# Altium integrated library TI Amplifiers and Linear Operational Amplifier High Speed.IntLib: 1100 symbols (part 24 of 44)
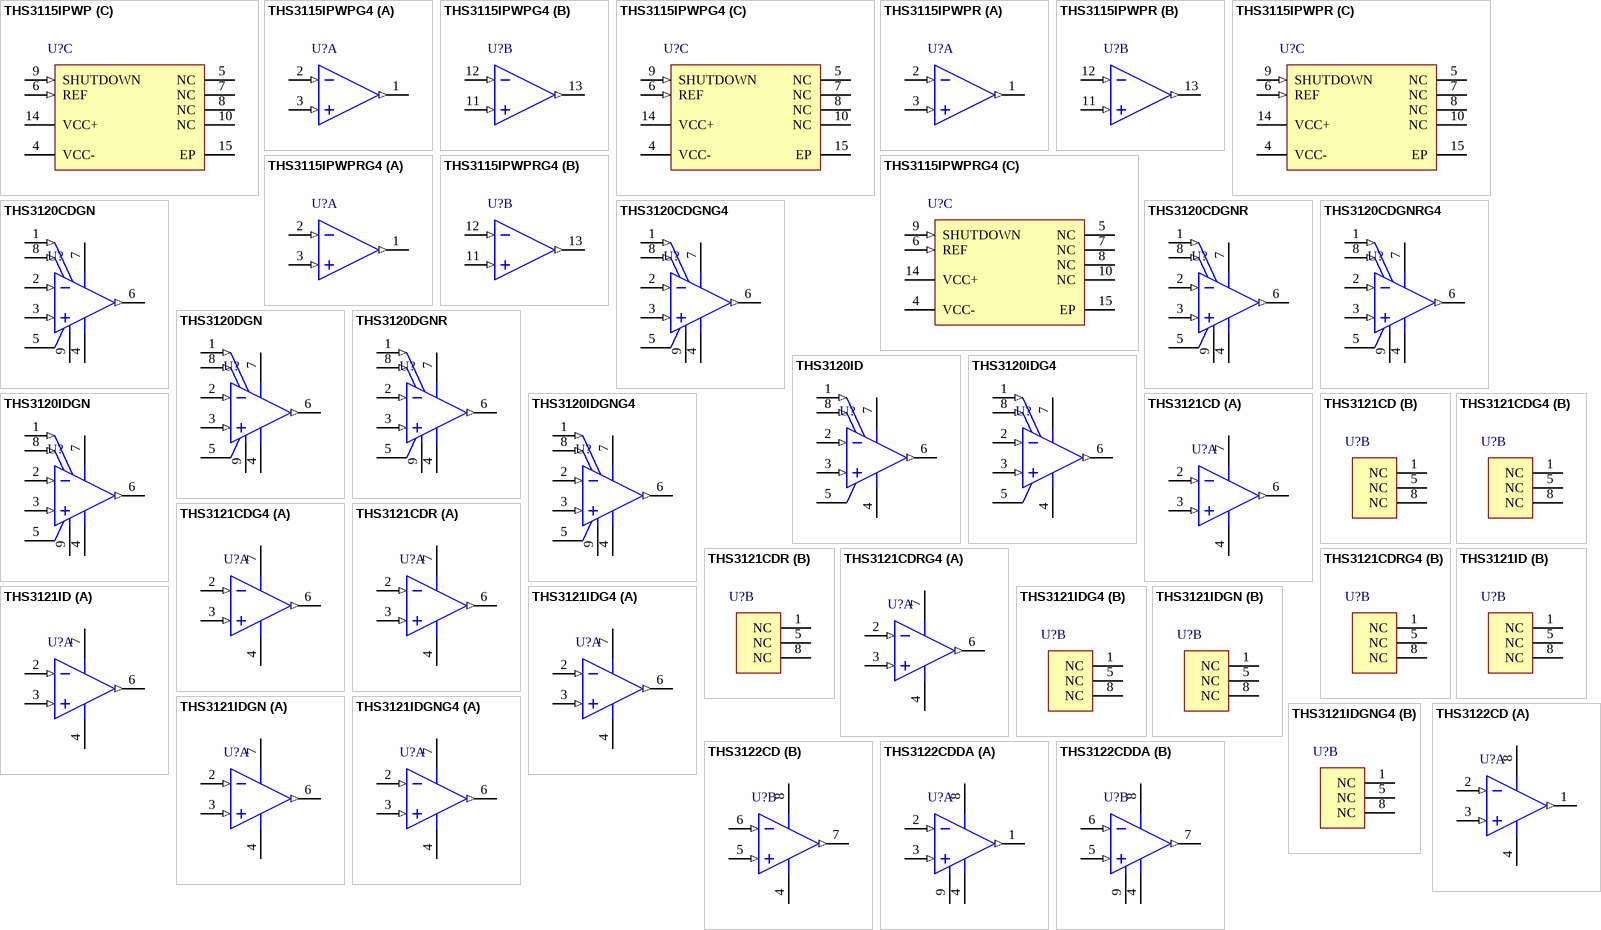
[diagram p74: symbols THS3115IPWP to THS3122CDDA]

## THS3121CD
designator U?
Single, Low Noise, High Output Drive, 475 mA Current-Feedback Amplifier, 10 to 30 V, -40 to 85 degC, 8-pin SOIC (D8), Green (RoHS & no Sb/Br); Manufacturer: Texas Instruments; PartNumber: THS3121CD; 2nd Harmonic(dBc): 51; 3rd Harmonic(dBc): 50; @ MHz: 10; Acl, min stable gain(V/V): 1; BW @ Acl(MHz): 130; Diff Gain(%): 0.007; Diff Phase(deg): 0.018; Iib(Max)(nA): 6000; Io(Typ)(mA): 475; Settling Time (0.1%)(Typ)(ns): 11; Slew Rate(Typ)(V/us): 1700; Sub Family: High Output Current Amplifier (>=50mA), High Speed Amplifier (>=50MHz), High Supply Voltage Amplifier (>=30V); THD (Fc is 1 MHz)(Typ)(dB): -78; Vio(Max)(mV): 8; Vn at Flatband(Typ)(nV/rtHz): 2.5; Vs(Max)(V): 30; DatasheetVersion: SLOS420E; PackageVersion: 4040047-3/M, 06/2011; PackageReference: D8; PackageDescription: 8-Pin Plastic Small Outline, Body 4.9 x 3.9 mm, Pitch 1.27 mm; Supplier 1: Digi-Key; Supplier Part Number 1: 296-34200-5-ND; Supplier 2: Newark; Supplier Part Number 2: 87H2790; Supplier 3: Mouser; Supplier Part Number 3: 595-THS3121CD; Eco-Plan: Green (RoHS & no Sb/Br); Number of Channels: 1; Vs(Min)(V): 10; Mounting Technology: Surface Mount; Code_JEDEC: MS-012; ComponentLink1Description: Manufacturer URL; ComponentLink1URL: http://www.ti.com/; ComponentLink2Description: Datasheet; ComponentLink2URL: http://www.ti.com/general/docs/lit/getliterature.tsp?genericPartNumber=THS3121&fileType=pdf; ComponentLink3Description: Package Specification; ComponentLink3URL: http://www.ti.com/litv/pdf/msoi002j
footprint TI-D8_N (SOIC, 8-Leads, Body 4.9x3.9mm, Pitch 1.27mm, IPC Medium Density)
footprint TI-D8_L (SOIC, 8-Leads, Body 4.9x3.9mm, Pitch 1.27mm, IPC High Density)
footprint TI-D8_M (SOIC, 8-Leads, Body 4.9x3.9mm, Pitch 1.27mm, IPC Low Density)
part A pins: 2 VIN- (in), 3 VIN+ (in), 4 VS- (power), 6 VOUT (out), 7 VS+ (power)
part B pins: 1 NC, 5 NC, 8 NC

## THS3121CDG4
designator U?
Single, Low Noise, High Output Drive, 475 mA Current-Feedback Amplifier, 10 to 30 V, -40 to 85 degC, 8-pin SOIC (D8), Green (RoHS & no Sb/Br); Manufacturer: Texas Instruments; PartNumber: THS3121CDG4; 2nd Harmonic(dBc): 51; 3rd Harmonic(dBc): 50; @ MHz: 10; Acl, min stable gain(V/V): 1; BW @ Acl(MHz): 130; Diff Gain(%): 0.007; Diff Phase(deg): 0.018; Iib(Max)(nA): 6000; Io(Typ)(mA): 475; Settling Time (0.1%)(Typ)(ns): 11; Slew Rate(Typ)(V/us): 1700; Sub Family: High Output Current Amplifier (>=50mA), High Speed Amplifier (>=50MHz), High Supply Voltage Amplifier (>=30V); THD (Fc is 1 MHz)(Typ)(dB): -78; Vio(Max)(mV): 8; Vn at Flatband(Typ)(nV/rtHz): 2.5; Vs(Max)(V): 30; DatasheetVersion: SLOS420E; PackageVersion: 4040047-3/M, 06/2011; PackageReference: D8; PackageDescription: 8-Pin Plastic Small Outline, Body 4.9 x 3.9 mm, Pitch 1.27 mm; Supplier 1: Digi-Key; Supplier Part Number 1: THS3121CDG4-ND; Supplier 2: Mouser; Supplier Part Number 2: 595-THS3121CDG4; Eco-Plan: Green (RoHS & no Sb/Br); Number of Channels: 1; Vs(Min)(V): 10; Mounting Technology: Surface Mount; Code_JEDEC: MS-012; ComponentLink1Description: Manufacturer URL; ComponentLink1URL: http://www.ti.com/; ComponentLink2Description: Datasheet; ComponentLink2URL: http://www.ti.com/general/docs/lit/getliterature.tsp?genericPartNumber=THS3121&fileType=pdf; ComponentLink3Description: Package Specification; ComponentLink3URL: http://www.ti.com/litv/pdf/msoi002j
footprint TI-D8_N (SOIC, 8-Leads, Body 4.9x3.9mm, Pitch 1.27mm, IPC Medium Density)
footprint TI-D8_L (SOIC, 8-Leads, Body 4.9x3.9mm, Pitch 1.27mm, IPC High Density)
footprint TI-D8_M (SOIC, 8-Leads, Body 4.9x3.9mm, Pitch 1.27mm, IPC Low Density)
part A pins: 2 VIN- (in), 3 VIN+ (in), 4 VS- (power), 6 VOUT (out), 7 VS+ (power)
part B pins: 1 NC, 5 NC, 8 NC

## THS3121CDR
designator U?
Single, Low Noise, High Output Drive, 475 mA Current-Feedback Amplifier, 10 to 30 V, -40 to 85 degC, 8-pin SOIC (D8), Green (RoHS & no Sb/Br); Manufacturer: Texas Instruments; PartNumber: THS3121CDR; 2nd Harmonic(dBc): 51; 3rd Harmonic(dBc): 50; @ MHz: 10; Acl, min stable gain(V/V): 1; BW @ Acl(MHz): 130; Diff Gain(%): 0.007; Diff Phase(deg): 0.018; Iib(Max)(nA): 6000; Io(Typ)(mA): 475; Settling Time (0.1%)(Typ)(ns): 11; Slew Rate(Typ)(V/us): 1700; Sub Family: High Output Current Amplifier (>=50mA), High Speed Amplifier (>=50MHz), High Supply Voltage Amplifier (>=30V); THD (Fc is 1 MHz)(Typ)(dB): -78; Vio(Max)(mV): 8; Vn at Flatband(Typ)(nV/rtHz): 2.5; Vs(Max)(V): 30; DatasheetVersion: SLOS420E; PackageVersion: 4040047-3/M, 06/2011; PackageReference: D8; PackageDescription: 8-Pin Plastic Small Outline, Body 4.9 x 3.9 mm, Pitch 1.27 mm; Supplier 1: Digi-Key; Supplier Part Number 1: THS3121CDR-ND; Supplier 2: Newark; Supplier Part Number 2: 87H2793; Supplier 3: Mouser; Supplier Part Number 3: 595-THS3121CDR; Eco-Plan: Green (RoHS & no Sb/Br); Number of Channels: 1; Vs(Min)(V): 10; Mounting Technology: Surface Mount; Code_JEDEC: MS-012; ComponentLink1Description: Manufacturer URL; ComponentLink1URL: http://www.ti.com/; ComponentLink2Description: Datasheet; ComponentLink2URL: http://www.ti.com/general/docs/lit/getliterature.tsp?genericPartNumber=THS3121&fileType=pdf; ComponentLink3Description: Package Specification; ComponentLink3URL: http://www.ti.com/litv/pdf/msoi002j
footprint TI-D8_N (SOIC, 8-Leads, Body 4.9x3.9mm, Pitch 1.27mm, IPC Medium Density)
footprint TI-D8_L (SOIC, 8-Leads, Body 4.9x3.9mm, Pitch 1.27mm, IPC High Density)
footprint TI-D8_M (SOIC, 8-Leads, Body 4.9x3.9mm, Pitch 1.27mm, IPC Low Density)
part A pins: 2 VIN- (in), 3 VIN+ (in), 4 VS- (power), 6 VOUT (out), 7 VS+ (power)
part B pins: 1 NC, 5 NC, 8 NC

## THS3121CDRG4
designator U?
Single, Low Noise, High Output Drive, 475 mA Current-Feedback Amplifier, 10 to 30 V, -40 to 85 degC, 8-pin SOIC (D8), Green (RoHS & no Sb/Br); Manufacturer: Texas Instruments; PartNumber: THS3121CDRG4; 2nd Harmonic(dBc): 51; 3rd Harmonic(dBc): 50; @ MHz: 10; Acl, min stable gain(V/V): 1; BW @ Acl(MHz): 130; Diff Gain(%): 0.007; Diff Phase(deg): 0.018; Iib(Max)(nA): 6000; Io(Typ)(mA): 475; Settling Time (0.1%)(Typ)(ns): 11; Slew Rate(Typ)(V/us): 1700; Sub Family: High Output Current Amplifier (>=50mA), High Speed Amplifier (>=50MHz), High Supply Voltage Amplifier (>=30V); THD (Fc is 1 MHz)(Typ)(dB): -78; Vio(Max)(mV): 8; Vn at Flatband(Typ)(nV/rtHz): 2.5; Vs(Max)(V): 30; DatasheetVersion: SLOS420E; PackageVersion: 4040047-3/M, 06/2011; PackageReference: D8; PackageDescription: 8-Pin Plastic Small Outline, Body 4.9 x 3.9 mm, Pitch 1.27 mm; Supplier 1: Digi-Key; Supplier Part Number 1: THS3121CDRG4-ND; Supplier 2: Mouser; Supplier Part Number 2: 595-THS3121CDRG4; Eco-Plan: Green (RoHS & no Sb/Br); Number of Channels: 1; Vs(Min)(V): 10; Mounting Technology: Surface Mount; Code_JEDEC: MS-012; ComponentLink1Description: Manufacturer URL; ComponentLink1URL: http://www.ti.com/; ComponentLink2Description: Datasheet; ComponentLink2URL: http://www.ti.com/general/docs/lit/getliterature.tsp?genericPartNumber=THS3121&fileType=pdf; ComponentLink3Description: Package Specification; ComponentLink3URL: http://www.ti.com/litv/pdf/msoi002j
footprint TI-D8_N (SOIC, 8-Leads, Body 4.9x3.9mm, Pitch 1.27mm, IPC Medium Density)
footprint TI-D8_L (SOIC, 8-Leads, Body 4.9x3.9mm, Pitch 1.27mm, IPC High Density)
footprint TI-D8_M (SOIC, 8-Leads, Body 4.9x3.9mm, Pitch 1.27mm, IPC Low Density)
part A pins: 2 VIN- (in), 3 VIN+ (in), 4 VS- (power), 6 VOUT (out), 7 VS+ (power)
part B pins: 1 NC, 5 NC, 8 NC

## THS3121ID
designator U?
Single, Low Noise, High Output Drive, 475 mA Current-Feedback Amplifier, 10 to 30 V, -40 to 85 degC, 8-pin SOIC (D8), Green (RoHS & no Sb/Br); Manufacturer: Texas Instruments; PartNumber: THS3121ID; 2nd Harmonic(dBc): 51; 3rd Harmonic(dBc): 50; @ MHz: 10; Acl, min stable gain(V/V): 1; BW @ Acl(MHz): 130; Diff Gain(%): 0.007; Diff Phase(deg): 0.018; Iib(Max)(nA): 6000; Io(Typ)(mA): 475; Settling Time (0.1%)(Typ)(ns): 11; Slew Rate(Typ)(V/us): 1700; Sub Family: High Output Current Amplifier (>=50mA), High Speed Amplifier (>=50MHz), High Supply Voltage Amplifier (>=30V); THD (Fc is 1 MHz)(Typ)(dB): -78; Vio(Max)(mV): 8; Vn at Flatband(Typ)(nV/rtHz): 2.5; Vs(Max)(V): 30; DatasheetVersion: SLOS420E; PackageVersion: 4040047-3/M, 06/2011; PackageReference: D8; PackageDescription: 8-Pin Plastic Small Outline, Body 4.9 x 3.9 mm, Pitch 1.27 mm; Supplier 1: Digi-Key; Supplier Part Number 1: 296-15774-5-ND; Supplier 2: Farnell; Supplier Part Number 2: 8453055; Supplier 3: Newark; Supplier Part Number 3: 87H2794; Supplier 4: Mouser; Supplier Part Number 4: 595-THS3121ID; Eco-Plan: Green (RoHS & no Sb/Br); Number of Channels: 1; Vs(Min)(V): 10; Mounting Technology: Surface Mount; Code_JEDEC: MS-012; ComponentLink1Description: Manufacturer URL; ComponentLink1URL: http://www.ti.com/; ComponentLink2Description: Datasheet; ComponentLink2URL: http://www.ti.com/general/docs/lit/getliterature.tsp?genericPartNumber=THS3121&fileType=pdf; ComponentLink3Description: Package Specification; ComponentLink3URL: http://www.ti.com/litv/pdf/msoi002j
footprint TI-D8_N (SOIC, 8-Leads, Body 4.9x3.9mm, Pitch 1.27mm, IPC Medium Density)
footprint TI-D8_L (SOIC, 8-Leads, Body 4.9x3.9mm, Pitch 1.27mm, IPC High Density)
footprint TI-D8_M (SOIC, 8-Leads, Body 4.9x3.9mm, Pitch 1.27mm, IPC Low Density)
part A pins: 2 VIN- (in), 3 VIN+ (in), 4 VS- (power), 6 VOUT (out), 7 VS+ (power)
part B pins: 1 NC, 5 NC, 8 NC

## THS3121IDG4
designator U?
Single, Low Noise, High Output Drive, 475 mA Current-Feedback Amplifier, 10 to 30 V, -40 to 85 degC, 8-pin SOIC (D8), Green (RoHS & no Sb/Br); Manufacturer: Texas Instruments; PartNumber: THS3121IDG4; 2nd Harmonic(dBc): 51; 3rd Harmonic(dBc): 50; @ MHz: 10; Acl, min stable gain(V/V): 1; BW @ Acl(MHz): 130; Diff Gain(%): 0.007; Diff Phase(deg): 0.018; Iib(Max)(nA): 6000; Io(Typ)(mA): 475; Settling Time (0.1%)(Typ)(ns): 11; Slew Rate(Typ)(V/us): 1700; Sub Family: High Output Current Amplifier (>=50mA), High Speed Amplifier (>=50MHz), High Supply Voltage Amplifier (>=30V); THD (Fc is 1 MHz)(Typ)(dB): -78; Vio(Max)(mV): 8; Vn at Flatband(Typ)(nV/rtHz): 2.5; Vs(Max)(V): 30; DatasheetVersion: SLOS420E; PackageVersion: 4040047-3/M, 06/2011; PackageReference: D8; PackageDescription: 8-Pin Plastic Small Outline, Body 4.9 x 3.9 mm, Pitch 1.27 mm; Supplier 1: Digi-Key; Supplier Part Number 1: THS3121IDG4-ND; Supplier 2: Mouser; Supplier Part Number 2: 595-THS3121IDG4; Eco-Plan: Green (RoHS & no Sb/Br); Number of Channels: 1; Vs(Min)(V): 10; Mounting Technology: Surface Mount; Code_JEDEC: MS-012; ComponentLink1Description: Manufacturer URL; ComponentLink1URL: http://www.ti.com/; ComponentLink2Description: Datasheet; ComponentLink2URL: http://www.ti.com/general/docs/lit/getliterature.tsp?genericPartNumber=THS3121&fileType=pdf; ComponentLink3Description: Package Specification; ComponentLink3URL: http://www.ti.com/litv/pdf/msoi002j
footprint TI-D8_N (SOIC, 8-Leads, Body 4.9x3.9mm, Pitch 1.27mm, IPC Medium Density)
footprint TI-D8_L (SOIC, 8-Leads, Body 4.9x3.9mm, Pitch 1.27mm, IPC High Density)
footprint TI-D8_M (SOIC, 8-Leads, Body 4.9x3.9mm, Pitch 1.27mm, IPC Low Density)
part A pins: 2 VIN- (in), 3 VIN+ (in), 4 VS- (power), 6 VOUT (out), 7 VS+ (power)
part B pins: 1 NC, 5 NC, 8 NC

## THS3121IDGN
designator U?
Single, Low Noise, High Output Drive, 475 mA Current-Feedback Amplifier, 10 to 30 V, -40 to 85 degC, 8-pin SOP (DGN8), Green (RoHS & no Sb/Br); Manufacturer: Texas Instruments; PartNumber: THS3121IDGN; 2nd Harmonic(dBc): 51; 3rd Harmonic(dBc): 50; @ MHz: 10; Acl, min stable gain(V/V): 1; BW @ Acl(MHz): 130; Diff Gain(%): 0.007; Diff Phase(deg): 0.018; Iib(Max)(nA): 6000; Io(Typ)(mA): 475; Settling Time (0.1%)(Typ)(ns): 11; Slew Rate(Typ)(V/us): 1700; Sub Family: High Output Current Amplifier (>=50mA), High Speed Amplifier (>=50MHz), High Supply Voltage Amplifier (>=30V); THD (Fc is 1 MHz)(Typ)(dB): -78; Vio(Max)(mV): 8; Vn at Flatband(Typ)(nV/rtHz): 2.5; Vs(Max)(V): 30; DatasheetVersion: SLOS420E; PackageVersion: 4073271/F, 05/2011; PackageReference: DGN8-1760X1425TP; PackageDescription: 8-pin Plastic Small Outline, Body 3 x 3 mm, Pitch 0.65 mm; Supplier 1: Digi-Key; Supplier Part Number 1: 296-15775-5-ND; Supplier 2: Newark; Supplier Part Number 2: 87H2795; Supplier 3: Mouser; Supplier Part Number 3: 595-THS3121IDGN; Eco-Plan: Green (RoHS & no Sb/Br); Number of Channels: 1; Vs(Min)(V): 10; Mounting Technology: Surface Mount; Code_JEDEC: MO-187; ComponentLink1Description: Manufacturer URL; ComponentLink1URL: http://www.ti.com/; ComponentLink2Description: Datasheet; ComponentLink2URL: http://www.ti.com/general/docs/lit/getliterature.tsp?genericPartNumber=THS3121&fileType=pdf; ComponentLink3Description: Package Specification; ComponentLink3URL: http://www.ti.com/litv/pdf/mpds046e
footprint TI-DGN8-1760X1425TP_N (SOP, 8-Leads, Body 3x3mm, Pitch 0.65mm, Thermal Pad 1.76x1.425mm, IPC Medium Density)
footprint TI-DGN8-1760X1425TP_L (SOP, 8-Leads, Body 3x3mm, Pitch 0.65mm, Thermal Pad 1.76x1.425mm, IPC High Density)
footprint TI-DGN8-1760X1425TP_M (SOP, 8-Leads, Body 3x3mm, Pitch 0.65mm, Thermal Pad 1.76 x 1.425 mm, IPC Low Density)
part A pins: 2 VIN- (in), 3 VIN+ (in), 4 VS- (power), 6 VOUT (out), 7 VS+ (power)
part B pins: 1 NC, 5 NC, 8 NC

## THS3121IDGNG4
designator U?
Single, Low Noise, High Output Drive, 475 mA Current-Feedback Amplifier, 10 to 30 V, -40 to 85 degC, 8-pin SOP (DGN8), Green (RoHS & no Sb/Br); Manufacturer: Texas Instruments; PartNumber: THS3121IDGNG4; 2nd Harmonic(dBc): 51; 3rd Harmonic(dBc): 50; @ MHz: 10; Acl, min stable gain(V/V): 1; BW @ Acl(MHz): 130; Diff Gain(%): 0.007; Diff Phase(deg): 0.018; Iib(Max)(nA): 6000; Io(Typ)(mA): 475; Settling Time (0.1%)(Typ)(ns): 11; Slew Rate(Typ)(V/us): 1700; Sub Family: High Output Current Amplifier (>=50mA), High Speed Amplifier (>=50MHz), High Supply Voltage Amplifier (>=30V); THD (Fc is 1 MHz)(Typ)(dB): -78; Vio(Max)(mV): 8; Vn at Flatband(Typ)(nV/rtHz): 2.5; Vs(Max)(V): 30; DatasheetVersion: SLOS420E; PackageVersion: 4073271/F, 05/2011; PackageReference: DGN8-1760X1425TP; PackageDescription: 8-pin Plastic Small Outline, Body 3 x 3 mm, Pitch 0.65 mm; Supplier 1: Digi-Key; Supplier Part Number 1: THS3121IDGNG4-ND; Supplier 2: Mouser; Supplier Part Number 2: 595-THS3121IDGNG4; Eco-Plan: Green (RoHS & no Sb/Br); Number of Channels: 1; Vs(Min)(V): 10; Mounting Technology: Surface Mount; Code_JEDEC: MO-187; ComponentLink1Description: Manufacturer URL; ComponentLink1URL: http://www.ti.com/; ComponentLink2Description: Datasheet; ComponentLink2URL: http://www.ti.com/general/docs/lit/getliterature.tsp?genericPartNumber=THS3121&fileType=pdf; ComponentLink3Description: Package Specification; ComponentLink3URL: http://www.ti.com/litv/pdf/mpds046e
footprint TI-DGN8-1760X1425TP_N (SOP, 8-Leads, Body 3x3mm, Pitch 0.65mm, Thermal Pad 1.76x1.425mm, IPC Medium Density)
footprint TI-DGN8-1760X1425TP_L (SOP, 8-Leads, Body 3x3mm, Pitch 0.65mm, Thermal Pad 1.76x1.425mm, IPC High Density)
footprint TI-DGN8-1760X1425TP_M (SOP, 8-Leads, Body 3x3mm, Pitch 0.65mm, Thermal Pad 1.76 x 1.425 mm, IPC Low Density)
part A pins: 2 VIN- (in), 3 VIN+ (in), 4 VS- (power), 6 VOUT (out), 7 VS+ (power)
part B pins: 1 NC, 5 NC, 8 NC

## THS3122CD
designator U?
Dual, High Output Current, 120 MHz Amplifier, 10 to 30 V, 0 to 70 degC, 8-pin SOIC (D8), Green (RoHS & no Sb/Br); Manufacturer: Texas Instruments; PartNumber: THS3122CD; 2nd Harmonic(dBc): 62; 3rd Harmonic(dBc): 55; @ MHz: 10; Acl, min stable gain(V/V): 1; BW @ Acl(MHz): 160; Diff Gain(%): 0.01; Diff Phase(deg): 0.011; Iib(Max)(nA): 3000; Io(Typ)(mA): 440; Iq per channel(Max)(mA): 11.5; Number of Channels: 2; Settling Time (0.1%)(Typ)(ns): 64; Slew Rate(Typ)(V/us): 1550; Sub Family: High Output Current Amplifier (>=50mA), High Speed Amplifier (>=50MHz), High Supply Voltage Amplifier (>=30V); THD (Fc is 1 MHz)(Typ)(dB): -77; Vn at Flatband(Typ)(nV/rtHz): 2.2; Vs(Max)(V): 30; DatasheetVersion: SLOS382D; PackageVersion: 4040047-3/M, 06/2011; PackageReference: D8; PackageDescription: 8-Pin Plastic Small Outline, Body 4.9 x 3.9 mm, Pitch 1.27 mm; Supplier 1: Digi-Key; Supplier Part Number 1: 296-34201-5-ND; Supplier 2: Mouser; Supplier Part Number 2: 595-THS3122CD; Eco-Plan: Green (RoHS & no Sb/Br); Vio(Max)(mV): 10; Vs(Min)(V): 10; Mounting Technology: Surface Mount; Code_JEDEC: MS-012; ComponentLink1Description: Manufacturer URL; ComponentLink1URL: http://www.ti.com/; ComponentLink2Description: Datasheet; ComponentLink2URL: http://www.ti.com/general/docs/lit/getliterature.tsp?genericPartNumber=THS3122&fileType=pdf; ComponentLink3Description: Package Specification; ComponentLink3URL: http://www.ti.com/litv/pdf/msoi002j
footprint TI-D8_N (SOIC, 8-Leads, Body 4.9x3.9mm, Pitch 1.27mm, IPC Medium Density)
footprint TI-D8_L (SOIC, 8-Leads, Body 4.9x3.9mm, Pitch 1.27mm, IPC High Density)
footprint TI-D8_M (SOIC, 8-Leads, Body 4.9x3.9mm, Pitch 1.27mm, IPC Low Density)
pins on every part: 4 VCC- (power), 8 VCC+ (power)
part A pins: 1 OUT1 (out), 2 IN1- (in), 3 IN1+ (in)
part B pins: 5 IN2+ (in), 6 IN2- (in), 7 OUT2 (out)

## THS3122CDDA
designator U?
Dual, High Output Current, 120 MHz Amplifier, 10 to 30 V, 0 to 70 degC, 8-pin SOP (DDA8), Green (RoHS & no Sb/Br); Manufacturer: Texas Instruments; PartNumber: THS3122CDDA; 2nd Harmonic(dBc): 62; 3rd Harmonic(dBc): 55; @ MHz: 10; Acl, min stable gain(V/V): 1; BW @ Acl(MHz): 160; Diff Gain(%): 0.01; Diff Phase(deg): 0.011; Iib(Max)(nA): 3000; Io(Typ)(mA): 440; Iq per channel(Max)(mA): 11.5; Number of Channels: 2; Settling Time (0.1%)(Typ)(ns): 64; Slew Rate(Typ)(V/us): 1550; Sub Family: High Output Current Amplifier (>=50mA), High Speed Amplifier (>=50MHz), High Supply Voltage Amplifier (>=30V); THD (Fc is 1 MHz)(Typ)(dB): -77; Vn at Flatband(Typ)(nV/rtHz): 2.2; Vs(Max)(V): 30; DatasheetVersion: SLOS382D; PackageVersion: 4202561/F, 12/2011; PackageReference: DDA8-3025X2335TP; PackageDescription: 8-Pin PowerPAD(TM) Plastic Small Outline, Body 4.9 x 3.9 mm, Pitch 1.27 mm; Supplier 1: Digi-Key; Supplier Part Number 1: THS3122CDDA-ND; Supplier 2: Mouser; Supplier Part Number 2: 595-THS3122CDDA; Eco-Plan: Green (RoHS & no Sb/Br); Vio(Max)(mV): 10; Vs(Min)(V): 10; Mounting Technology: Surface Mount; Code_JEDEC: MS-012; ComponentLink1Description: Manufacturer URL; ComponentLink1URL: http://www.ti.com/; ComponentLink2Description: Datasheet; ComponentLink2URL: http://www.ti.com/general/docs/lit/getliterature.tsp?genericPartNumber=THS3122&fileType=pdf; ComponentLink3Description: Package Specification; ComponentLink3URL: http://www.ti.com/litv/pdf/mpds092e
footprint TI-DDA8-3025X2335TP_N (SOP, 8-Leads, Body 4.9x3.9mm, Pitch 1.27mm, Thermal Pad 3.025x2.335mm, IPC Medium Density)
footprint TI-DDA8-3025X2335TP_L (SOP, 8-Leads, Body 4.9x3.9mm, Pitch 1.27mm, Thermal Pad 3.025x2.335mm, IPC High Density)
footprint TI-DDA8-3025X2335TP_M (SOP, 8-Leads, Body 4.9x3.9mm, Pitch 1.27mm, Thermal Pad 3.025x2.335mm, IPC Low Density)
pins on every part: 4 VCC- (power), 8 VCC+ (power), 9 EP
part A pins: 1 OUT1 (out), 2 IN1- (in), 3 IN1+ (in)
part B pins: 5 IN2+ (in), 6 IN2- (in), 7 OUT2 (out)

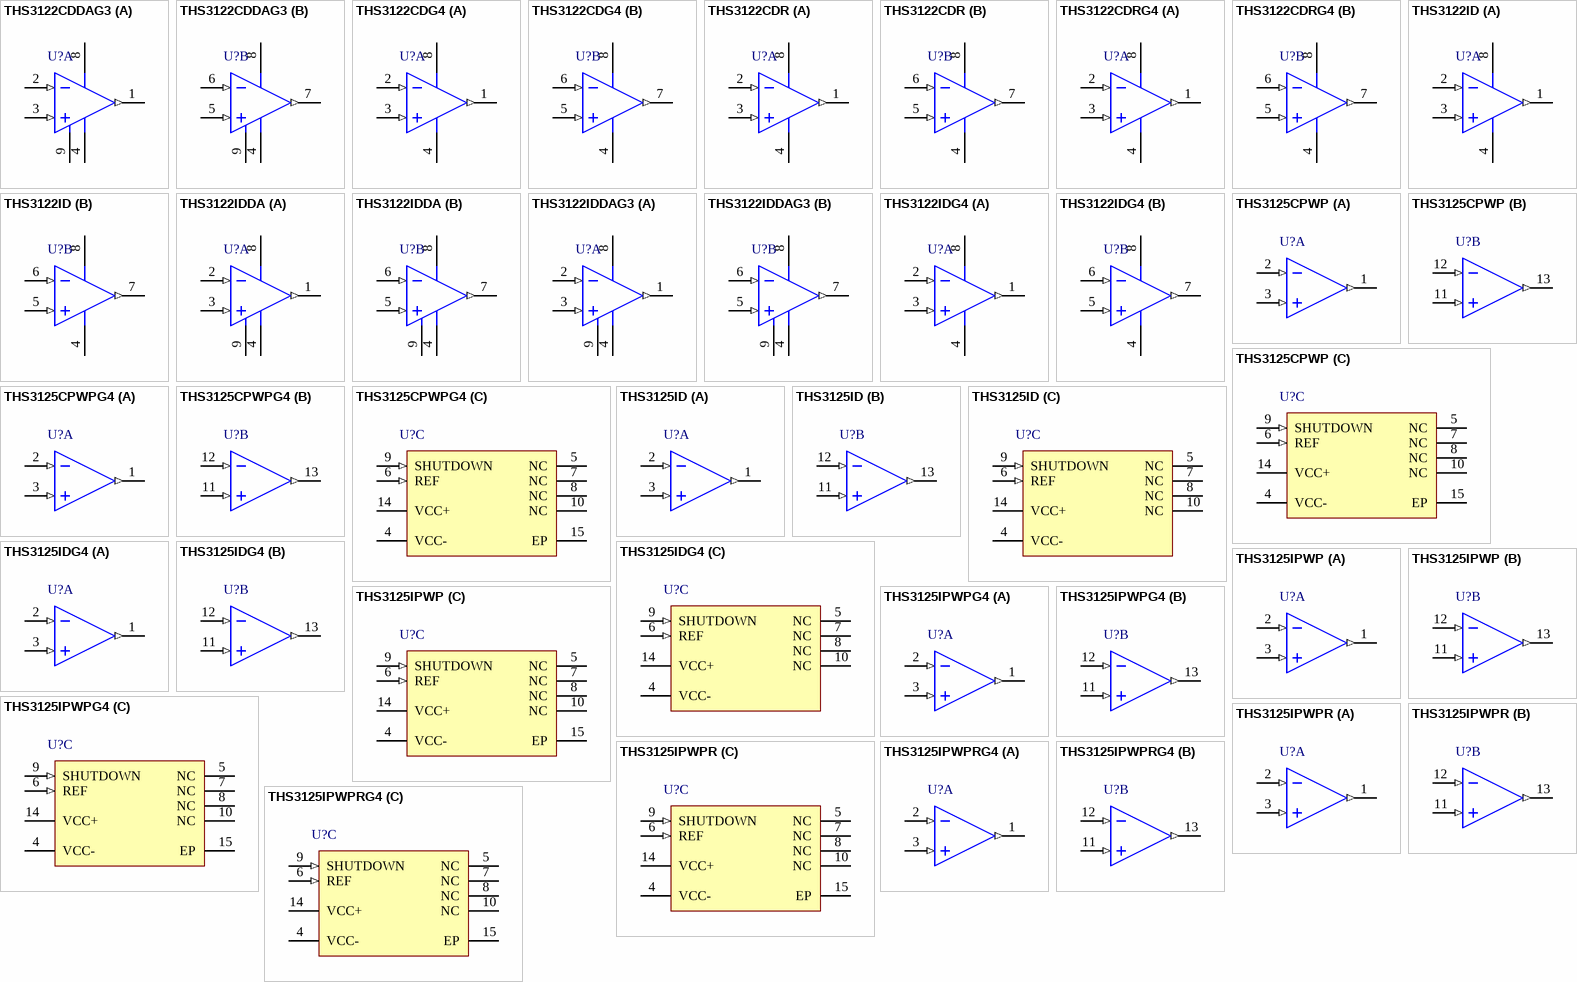
[diagram p29: symbols THS3122CDDAG3 to THS3125IPWPRG4]

## THS3122CDDAG3
designator U?
Dual, High Output Current, 120 MHz Amplifier, 10 to 30 V, 0 to 70 degC, 8-pin SOP (DDA8), Green (RoHS & no Sb/Br); Manufacturer: Texas Instruments; PartNumber: THS3122CDDAG3; 2nd Harmonic(dBc): 62; 3rd Harmonic(dBc): 55; @ MHz: 10; Acl, min stable gain(V/V): 1; BW @ Acl(MHz): 160; Diff Gain(%): 0.01; Diff Phase(deg): 0.011; Iib(Max)(nA): 3000; Io(Typ)(mA): 440; Iq per channel(Max)(mA): 11.5; Number of Channels: 2; Settling Time (0.1%)(Typ)(ns): 64; Slew Rate(Typ)(V/us): 1550; Sub Family: High Output Current Amplifier (>=50mA), High Speed Amplifier (>=50MHz), High Supply Voltage Amplifier (>=30V); THD (Fc is 1 MHz)(Typ)(dB): -77; Vn at Flatband(Typ)(nV/rtHz): 2.2; Vs(Max)(V): 30; DatasheetVersion: SLOS382D; PackageVersion: 4202561/F, 12/2011; PackageReference: DDA8-3025X2335TP; PackageDescription: 8-Pin PowerPAD(TM) Plastic Small Outline, Body 4.9 x 3.9 mm, Pitch 1.27 mm; Supplier 1: Digi-Key; Supplier Part Number 1: THS3122CDDAG3-ND; Supplier 2: Mouser; Supplier Part Number 2: 595-THS3122CDDAG3; Eco-Plan: Green (RoHS & no Sb/Br); Vio(Max)(mV): 10; Vs(Min)(V): 10; Mounting Technology: Surface Mount; Code_JEDEC: MS-012; ComponentLink1Description: Manufacturer URL; ComponentLink1URL: http://www.ti.com/; ComponentLink2Description: Datasheet; ComponentLink2URL: http://www.ti.com/general/docs/lit/getliterature.tsp?genericPartNumber=THS3122&fileType=pdf; ComponentLink3Description: Package Specification; ComponentLink3URL: http://www.ti.com/litv/pdf/mpds092e
footprint TI-DDA8-3025X2335TP_N (SOP, 8-Leads, Body 4.9x3.9mm, Pitch 1.27mm, Thermal Pad 3.025x2.335mm, IPC Medium Density)
footprint TI-DDA8-3025X2335TP_L (SOP, 8-Leads, Body 4.9x3.9mm, Pitch 1.27mm, Thermal Pad 3.025x2.335mm, IPC High Density)
footprint TI-DDA8-3025X2335TP_M (SOP, 8-Leads, Body 4.9x3.9mm, Pitch 1.27mm, Thermal Pad 3.025x2.335mm, IPC Low Density)
pins on every part: 4 VCC- (power), 8 VCC+ (power), 9 EP
part A pins: 1 OUT1 (out), 2 IN1- (in), 3 IN1+ (in)
part B pins: 5 IN2+ (in), 6 IN2- (in), 7 OUT2 (out)

## THS3122CDG4
designator U?
Dual, High Output Current, 120 MHz Amplifier, 10 to 30 V, 0 to 70 degC, 8-pin SOIC (D8), Green (RoHS & no Sb/Br); Manufacturer: Texas Instruments; PartNumber: THS3122CDG4; 2nd Harmonic(dBc): 62; 3rd Harmonic(dBc): 55; @ MHz: 10; Acl, min stable gain(V/V): 1; BW @ Acl(MHz): 160; Diff Gain(%): 0.01; Diff Phase(deg): 0.011; Iib(Max)(nA): 3000; Io(Typ)(mA): 440; Iq per channel(Max)(mA): 11.5; Number of Channels: 2; Settling Time (0.1%)(Typ)(ns): 64; Slew Rate(Typ)(V/us): 1550; Sub Family: High Output Current Amplifier (>=50mA), High Speed Amplifier (>=50MHz), High Supply Voltage Amplifier (>=30V); THD (Fc is 1 MHz)(Typ)(dB): -77; Vn at Flatband(Typ)(nV/rtHz): 2.2; Vs(Max)(V): 30; DatasheetVersion: SLOS382D; PackageVersion: 4040047-3/M, 06/2011; PackageReference: D8; PackageDescription: 8-Pin Plastic Small Outline, Body 4.9 x 3.9 mm, Pitch 1.27 mm; Supplier 1: Digi-Key; Supplier Part Number 1: THS3122CDG4-ND; Supplier 2: Mouser; Supplier Part Number 2: 595-THS3122CDG4; Eco-Plan: Green (RoHS & no Sb/Br); Vio(Max)(mV): 10; Vs(Min)(V): 10; Mounting Technology: Surface Mount; Code_JEDEC: MS-012; ComponentLink1Description: Manufacturer URL; ComponentLink1URL: http://www.ti.com/; ComponentLink2Description: Datasheet; ComponentLink2URL: http://www.ti.com/general/docs/lit/getliterature.tsp?genericPartNumber=THS3122&fileType=pdf; ComponentLink3Description: Package Specification; ComponentLink3URL: http://www.ti.com/litv/pdf/msoi002j
footprint TI-D8_N (SOIC, 8-Leads, Body 4.9x3.9mm, Pitch 1.27mm, IPC Medium Density)
footprint TI-D8_L (SOIC, 8-Leads, Body 4.9x3.9mm, Pitch 1.27mm, IPC High Density)
footprint TI-D8_M (SOIC, 8-Leads, Body 4.9x3.9mm, Pitch 1.27mm, IPC Low Density)
pins on every part: 4 VCC- (power), 8 VCC+ (power)
part A pins: 1 OUT1 (out), 2 IN1- (in), 3 IN1+ (in)
part B pins: 5 IN2+ (in), 6 IN2- (in), 7 OUT2 (out)

## THS3122CDR
designator U?
Dual, High Output Current, 120 MHz Amplifier, 10 to 30 V, 0 to 70 degC, 8-pin SOIC (D8), Green (RoHS & no Sb/Br); Manufacturer: Texas Instruments; PartNumber: THS3122CDR; 2nd Harmonic(dBc): 62; 3rd Harmonic(dBc): 55; @ MHz: 10; Acl, min stable gain(V/V): 1; BW @ Acl(MHz): 160; Diff Gain(%): 0.01; Diff Phase(deg): 0.011; Iib(Max)(nA): 3000; Io(Typ)(mA): 440; Iq per channel(Max)(mA): 11.5; Number of Channels: 2; Settling Time (0.1%)(Typ)(ns): 64; Slew Rate(Typ)(V/us): 1550; Sub Family: High Output Current Amplifier (>=50mA), High Speed Amplifier (>=50MHz), High Supply Voltage Amplifier (>=30V); THD (Fc is 1 MHz)(Typ)(dB): -77; Vn at Flatband(Typ)(nV/rtHz): 2.2; Vs(Max)(V): 30; DatasheetVersion: SLOS382D; PackageVersion: 4040047-3/M, 06/2011; PackageReference: D8; PackageDescription: 8-Pin Plastic Small Outline, Body 4.9 x 3.9 mm, Pitch 1.27 mm; Supplier 1: Digi-Key; Supplier Part Number 1: THS3122CDR-ND; Supplier 2: Mouser; Supplier Part Number 2: 595-THS3122CDR; Eco-Plan: Green (RoHS & no Sb/Br); Vio(Max)(mV): 10; Vs(Min)(V): 10; Mounting Technology: Surface Mount; Code_JEDEC: MS-012; ComponentLink1Description: Manufacturer URL; ComponentLink1URL: http://www.ti.com/; ComponentLink2Description: Datasheet; ComponentLink2URL: http://www.ti.com/general/docs/lit/getliterature.tsp?genericPartNumber=THS3122&fileType=pdf; ComponentLink3Description: Package Specification; ComponentLink3URL: http://www.ti.com/litv/pdf/msoi002j
footprint TI-D8_N (SOIC, 8-Leads, Body 4.9x3.9mm, Pitch 1.27mm, IPC Medium Density)
footprint TI-D8_L (SOIC, 8-Leads, Body 4.9x3.9mm, Pitch 1.27mm, IPC High Density)
footprint TI-D8_M (SOIC, 8-Leads, Body 4.9x3.9mm, Pitch 1.27mm, IPC Low Density)
pins on every part: 4 VCC- (power), 8 VCC+ (power)
part A pins: 1 OUT1 (out), 2 IN1- (in), 3 IN1+ (in)
part B pins: 5 IN2+ (in), 6 IN2- (in), 7 OUT2 (out)

## THS3122CDRG4
designator U?
Dual, High Output Current, 120 MHz Amplifier, 10 to 30 V, 0 to 70 degC, 8-pin SOIC (D8), Green (RoHS & no Sb/Br); Manufacturer: Texas Instruments; PartNumber: THS3122CDRG4; 2nd Harmonic(dBc): 62; 3rd Harmonic(dBc): 55; @ MHz: 10; Acl, min stable gain(V/V): 1; BW @ Acl(MHz): 160; Diff Gain(%): 0.01; Diff Phase(deg): 0.011; Iib(Max)(nA): 3000; Io(Typ)(mA): 440; Iq per channel(Max)(mA): 11.5; Number of Channels: 2; Settling Time (0.1%)(Typ)(ns): 64; Slew Rate(Typ)(V/us): 1550; Sub Family: High Output Current Amplifier (>=50mA), High Speed Amplifier (>=50MHz), High Supply Voltage Amplifier (>=30V); THD (Fc is 1 MHz)(Typ)(dB): -77; Vn at Flatband(Typ)(nV/rtHz): 2.2; Vs(Max)(V): 30; DatasheetVersion: SLOS382D; PackageVersion: 4040047-3/M, 06/2011; PackageReference: D8; PackageDescription: 8-Pin Plastic Small Outline, Body 4.9 x 3.9 mm, Pitch 1.27 mm; Supplier 1: Digi-Key; Supplier Part Number 1: THS3122CDRG4-ND; Supplier 2: Mouser; Supplier Part Number 2: 595-THS3122CDRG4; Eco-Plan: Green (RoHS & no Sb/Br); Vio(Max)(mV): 10; Vs(Min)(V): 10; Mounting Technology: Surface Mount; Code_JEDEC: MS-012; ComponentLink1Description: Manufacturer URL; ComponentLink1URL: http://www.ti.com/; ComponentLink2Description: Datasheet; ComponentLink2URL: http://www.ti.com/general/docs/lit/getliterature.tsp?genericPartNumber=THS3122&fileType=pdf; ComponentLink3Description: Package Specification; ComponentLink3URL: http://www.ti.com/litv/pdf/msoi002j
footprint TI-D8_N (SOIC, 8-Leads, Body 4.9x3.9mm, Pitch 1.27mm, IPC Medium Density)
footprint TI-D8_L (SOIC, 8-Leads, Body 4.9x3.9mm, Pitch 1.27mm, IPC High Density)
footprint TI-D8_M (SOIC, 8-Leads, Body 4.9x3.9mm, Pitch 1.27mm, IPC Low Density)
pins on every part: 4 VCC- (power), 8 VCC+ (power)
part A pins: 1 OUT1 (out), 2 IN1- (in), 3 IN1+ (in)
part B pins: 5 IN2+ (in), 6 IN2- (in), 7 OUT2 (out)

## THS3122ID
designator U?
Dual, High Output Current, 120 MHz Amplifier, 10 to 30 V, -40 to 85 degC, 8-pin SOIC (D8), Green (RoHS & no Sb/Br); Manufacturer: Texas Instruments; PartNumber: THS3122ID; 2nd Harmonic(dBc): 62; 3rd Harmonic(dBc): 55; @ MHz: 10; Acl, min stable gain(V/V): 1; BW @ Acl(MHz): 160; Diff Gain(%): 0.011; Iib(Max)(nA): 3000; Io(Typ)(mA): 440; Iq per channel(Max)(mA): 11.5; Number of Channels: 2; Settling Time (0.1%)(Typ)(ns): 64; Slew Rate(Typ)(V/us): 1550; Sub Family: High Output Current Amplifier (>=50mA), High Speed Amplifier (>=50MHz), High Supply Voltage Amplifier (>=30V); THD (Fc is 1 MHz)(Typ)(dB): -77; Vio(Max)(mV): 6; Vn at Flatband(Typ)(nV/rtHz): 2.2; Vs(Max)(V): 30; DatasheetVersion: SLOS382D; PackageVersion: 4040047-3/M, 06/2011; PackageReference: D8; PackageDescription: 8-Pin Plastic Small Outline, Body 4.9 x 3.9 mm, Pitch 1.27 mm; Supplier 1: Digi-Key; Supplier Part Number 1: 296-13337-5-ND; Supplier 2: Newark; Supplier Part Number 2: 76C6258; Supplier 3: Mouser; Supplier Part Number 3: 595-THS3122ID; Diff Phase(deg): 0.011; Eco-Plan: Green (RoHS & no Sb/Br); Vs(Min)(V): 10; Mounting Technology: Surface Mount; Code_JEDEC: MS-012; ComponentLink1Description: Manufacturer URL; ComponentLink1URL: http://www.ti.com/; ComponentLink2Description: Datasheet; ComponentLink2URL: http://www.ti.com/general/docs/lit/getliterature.tsp?genericPartNumber=THS3122&fileType=pdf; ComponentLink3Description: Package Specification; ComponentLink3URL: http://www.ti.com/litv/pdf/msoi002j
footprint TI-D8_N (SOIC, 8-Leads, Body 4.9x3.9mm, Pitch 1.27mm, IPC Medium Density)
footprint TI-D8_L (SOIC, 8-Leads, Body 4.9x3.9mm, Pitch 1.27mm, IPC High Density)
footprint TI-D8_M (SOIC, 8-Leads, Body 4.9x3.9mm, Pitch 1.27mm, IPC Low Density)
pins on every part: 4 VCC- (power), 8 VCC+ (power)
part A pins: 1 OUT1 (out), 2 IN1- (in), 3 IN1+ (in)
part B pins: 5 IN2+ (in), 6 IN2- (in), 7 OUT2 (out)

## THS3122IDDA
designator U?
Dual, High Output Current, 120 MHz Amplifier, 10 to 30 V, -40 to 85 degC, 8-pin SOP (DDA8), Green (RoHS & no Sb/Br); Manufacturer: Texas Instruments; PartNumber: THS3122IDDA; 2nd Harmonic(dBc): 62; 3rd Harmonic(dBc): 55; @ MHz: 10; Acl, min stable gain(V/V): 1; BW @ Acl(MHz): 160; Diff Gain(%): 0.011; Iib(Max)(nA): 3000; Io(Typ)(mA): 440; Iq per channel(Max)(mA): 11.5; Number of Channels: 2; Settling Time (0.1%)(Typ)(ns): 64; Slew Rate(Typ)(V/us): 1550; Sub Family: High Output Current Amplifier (>=50mA), High Speed Amplifier (>=50MHz), High Supply Voltage Amplifier (>=30V); THD (Fc is 1 MHz)(Typ)(dB): -77; Vio(Max)(mV): 6; Vn at Flatband(Typ)(nV/rtHz): 2.2; Vs(Max)(V): 30; DatasheetVersion: SLOS382D; PackageVersion: 4202561/F, 12/2011; PackageReference: DDA8-3025X2335TP; PackageDescription: 8-Pin PowerPAD(TM) Plastic Small Outline, Body 4.9 x 3.9 mm, Pitch 1.27 mm; Supplier 1: Digi-Key; Supplier Part Number 1: 296-21979-ND; Supplier 2: Mouser; Supplier Part Number 2: 595-THS3122IDDA; Diff Phase(deg): 0.011; Eco-Plan: Green (RoHS & no Sb/Br); Vs(Min)(V): 10; Mounting Technology: Surface Mount; Code_JEDEC: MS-012; ComponentLink1Description: Manufacturer URL; ComponentLink1URL: http://www.ti.com/; ComponentLink2Description: Datasheet; ComponentLink2URL: http://www.ti.com/general/docs/lit/getliterature.tsp?genericPartNumber=THS3122&fileType=pdf; ComponentLink3Description: Package Specification; ComponentLink3URL: http://www.ti.com/litv/pdf/mpds092e
footprint TI-DDA8-3025X2335TP_N (SOP, 8-Leads, Body 4.9x3.9mm, Pitch 1.27mm, Thermal Pad 3.025x2.335mm, IPC Medium Density)
footprint TI-DDA8-3025X2335TP_L (SOP, 8-Leads, Body 4.9x3.9mm, Pitch 1.27mm, Thermal Pad 3.025x2.335mm, IPC High Density)
footprint TI-DDA8-3025X2335TP_M (SOP, 8-Leads, Body 4.9x3.9mm, Pitch 1.27mm, Thermal Pad 3.025x2.335mm, IPC Low Density)
pins on every part: 4 VCC- (power), 8 VCC+ (power), 9 EP
part A pins: 1 OUT1 (out), 2 IN1- (in), 3 IN1+ (in)
part B pins: 5 IN2+ (in), 6 IN2- (in), 7 OUT2 (out)

## THS3122IDDAG3
designator U?
Dual, High Output Current, 120 MHz Amplifier, 10 to 30 V, -40 to 85 degC, 8-pin SOP (DDA8), Green (RoHS & no Sb/Br); Manufacturer: Texas Instruments; PartNumber: THS3122IDDAG3; 2nd Harmonic(dBc): 62; 3rd Harmonic(dBc): 55; @ MHz: 10; Acl, min stable gain(V/V): 1; BW @ Acl(MHz): 160; Diff Gain(%): 0.011; Iib(Max)(nA): 3000; Io(Typ)(mA): 440; Iq per channel(Max)(mA): 11.5; Number of Channels: 2; Settling Time (0.1%)(Typ)(ns): 64; Slew Rate(Typ)(V/us): 1550; Sub Family: High Output Current Amplifier (>=50mA), High Speed Amplifier (>=50MHz), High Supply Voltage Amplifier (>=30V); THD (Fc is 1 MHz)(Typ)(dB): -77; Vio(Max)(mV): 6; Vn at Flatband(Typ)(nV/rtHz): 2.2; Vs(Max)(V): 30; DatasheetVersion: SLOS382D; PackageVersion: 4202561/F, 12/2011; PackageReference: DDA8-3025X2335TP; PackageDescription: 8-Pin PowerPAD(TM) Plastic Small Outline, Body 4.9 x 3.9 mm, Pitch 1.27 mm; Supplier 1: Digi-Key; Supplier Part Number 1: THS3122IDDAG3-ND; Supplier 2: Mouser; Supplier Part Number 2: 595-THS3122IDDAG3; Diff Phase(deg): 0.011; Eco-Plan: Green (RoHS & no Sb/Br); Vs(Min)(V): 10; Mounting Technology: Surface Mount; Code_JEDEC: MS-012; ComponentLink1Description: Manufacturer URL; ComponentLink1URL: http://www.ti.com/; ComponentLink2Description: Datasheet; ComponentLink2URL: http://www.ti.com/general/docs/lit/getliterature.tsp?genericPartNumber=THS3122&fileType=pdf; ComponentLink3Description: Package Specification; ComponentLink3URL: http://www.ti.com/litv/pdf/mpds092e
footprint TI-DDA8-3025X2335TP_N (SOP, 8-Leads, Body 4.9x3.9mm, Pitch 1.27mm, Thermal Pad 3.025x2.335mm, IPC Medium Density)
footprint TI-DDA8-3025X2335TP_L (SOP, 8-Leads, Body 4.9x3.9mm, Pitch 1.27mm, Thermal Pad 3.025x2.335mm, IPC High Density)
footprint TI-DDA8-3025X2335TP_M (SOP, 8-Leads, Body 4.9x3.9mm, Pitch 1.27mm, Thermal Pad 3.025x2.335mm, IPC Low Density)
pins on every part: 4 VCC- (power), 8 VCC+ (power), 9 EP
part A pins: 1 OUT1 (out), 2 IN1- (in), 3 IN1+ (in)
part B pins: 5 IN2+ (in), 6 IN2- (in), 7 OUT2 (out)

## THS3122IDG4
designator U?
Dual, High Output Current, 120 MHz Amplifier, 10 to 30 V, -40 to 85 degC, 8-pin SOIC (D8), Green (RoHS & no Sb/Br); Manufacturer: Texas Instruments; PartNumber: THS3122IDG4; 2nd Harmonic(dBc): 62; 3rd Harmonic(dBc): 55; @ MHz: 10; Acl, min stable gain(V/V): 1; BW @ Acl(MHz): 138; Diff Gain(%): 0.01; Diff Phase(deg): 0.011; Iib(Max)(nA): 23000; Io(Typ)(mA): 280; Iq per channel(Max)(mA): 11.5; Number of Channels: 2; Settling Time (0.1%)(Typ)(ns): 53; Slew Rate(Typ)(V/us): 1550; Sub Family: High Output Current Amplifier (>=50mA), High Speed Amplifier (>=50MHz), High Supply Voltage Amplifier (>=30V); THD (Fc is 1 MHz)(Typ)(dB): -80; Vn at Flatband(Typ)(nV/rtHz): 2.2; Vs(Max)(V): 30; DatasheetVersion: SLOS382D; PackageVersion: 4040047-3/M, 06/2011; PackageReference: D8; PackageDescription: 8-Pin Plastic Small Outline, Body 4.9 x 3.9 mm, Pitch 1.27 mm; Supplier 1: Digi-Key; Supplier Part Number 1: THS3122IDG4-ND; Supplier 2: Mouser; Supplier Part Number 2: 595-THS3122IDG4; Eco-Plan: Green (RoHS & no Sb/Br); Vio(Max)(mV): 10; Vs(Min)(V): 10; Mounting Technology: Surface Mount; Code_JEDEC: MS-012; ComponentLink1Description: Manufacturer URL; ComponentLink1URL: http://www.ti.com/; ComponentLink2Description: Datasheet; ComponentLink2URL: http://www.ti.com/general/docs/lit/getliterature.tsp?genericPartNumber=THS3122&fileType=pdf; ComponentLink3Description: Package Specification; ComponentLink3URL: http://www.ti.com/litv/pdf/msoi002j
footprint TI-D8_N (SOIC, 8-Leads, Body 4.9x3.9mm, Pitch 1.27mm, IPC Medium Density)
footprint TI-D8_L (SOIC, 8-Leads, Body 4.9x3.9mm, Pitch 1.27mm, IPC High Density)
footprint TI-D8_M (SOIC, 8-Leads, Body 4.9x3.9mm, Pitch 1.27mm, IPC Low Density)
pins on every part: 4 VCC- (power), 8 VCC+ (power)
part A pins: 1 OUT1 (out), 2 IN1- (in), 3 IN1+ (in)
part B pins: 5 IN2+ (in), 6 IN2- (in), 7 OUT2 (out)

## THS3125CPWP
designator U?
Dual, High Output Current, 120 MHz Amplifier with Shutdown, 10 to 30 V, 0 to 70 degC, 14-pin SOP (PWP14), Green (RoHS & no Sb/Br); Manufacturer: Texas Instruments; PartNumber: THS3125CPWP; 2nd Harmonic(dBc): 62; 3rd Harmonic(dBc): 55; @ MHz: 10; Acl, min stable gain(V/V): 1; BW @ Acl(MHz): 160; Diff Gain(%): 0.01; Diff Phase(deg): 0.011; Iib(Max)(nA): 3000; Io(Typ)(mA): 440; Number of Channels: 2; Settling Time (0.1%)(Typ)(ns): 64; Slew Rate(Typ)(V/us): 1550; Sub Family: High Output Current Amplifier (>=50mA), High Speed Amplifier (>=50MHz), High Supply Voltage Amplifier (>=30V); THD (Fc is 1 MHz)(Typ)(dB): -80; Vn at Flatband(Typ)(nV/rtHz): 2.2; Vs(Max)(V): 30; DatasheetVersion: SLOS382D; PackageVersion: 4073225-2/I, 05/2011; PackageReference: PWP14-1830X2055TP; PackageDescription: 14-Pin Plastic Small Outline, Body 4.4 x 5 mm, Pitch 0.65 mm; Supplier 1: Digi-Key; Supplier Part Number 1: THS3125CPWP-ND; Supplier 2: Mouser; Supplier Part Number 2: 595-THS3125CPWP; Eco-Plan: Green (RoHS & no Sb/Br); Vio(Max)(mV): 10; Vs(Min)(V): 10; Mounting Technology: Surface Mount; Code_JEDEC: MO-153; ComponentLink1Description: Manufacturer URL; ComponentLink1URL: http://www.ti.com/; ComponentLink2Description: Datasheet; ComponentLink2URL: http://www.ti.com/general/docs/lit/getliterature.tsp?genericPartNumber=THS3125&fileType=pdf; ComponentLink3Description: Package Specification; ComponentLink3URL: http://www.ti.com/litv/pdf/mpds373
footprint TI-PWP14-1830X2055TP_N (SOP, 14-Leads, Body 5x4.4mm, Pitch 0.65mm, Thermal Pad 1.830x2.055mm, IPC Medium Density)
footprint TI-PWP14-1830X2055TP_L (SOP, 14-Leads, Body 5x4.4mm, Pitch 0.65mm, Thermal Pad 1.830x2.055mm, IPC High Density)
footprint TI-PWP14-1830X2055TP_M (SOP, 14-Leads, Body 5x4.4mm, Pitch 0.65mm, Thermal Pad 1.830x2.055mm, IPC Low Density)
part A pins: 1 OUT1 (out), 2 IN1- (in), 3 IN1+ (in)
part B pins: 11 IN2+ (in), 12 IN2- (in), 13 OUT2 (out)
part C pins: 4 VCC- (power), 5 NC, 6 REF (in), 7 NC, 8 NC, 9 SHUTDOWN (in), 10 NC, 14 VCC+ (power), 15 EP

## THS3125CPWPG4
designator U?
Dual, High Output Current, 120 MHz Amplifier with Shutdown, 10 to 30 V, 0 to 70 degC, 14-pin SOP (PWP14), Green (RoHS & no Sb/Br); Manufacturer: Texas Instruments; PartNumber: THS3125CPWPG4; 2nd Harmonic(dBc): 62; 3rd Harmonic(dBc): 55; @ MHz: 10; Acl, min stable gain(V/V): 1; BW @ Acl(MHz): 160; Diff Gain(%): 0.01; Diff Phase(deg): 0.011; Iib(Max)(nA): 3000; Io(Typ)(mA): 440; Number of Channels: 2; Settling Time (0.1%)(Typ)(ns): 64; Slew Rate(Typ)(V/us): 1550; Sub Family: High Output Current Amplifier (>=50mA), High Speed Amplifier (>=50MHz), High Supply Voltage Amplifier (>=30V); THD (Fc is 1 MHz)(Typ)(dB): -80; Vn at Flatband(Typ)(nV/rtHz): 2.2; Vs(Max)(V): 30; DatasheetVersion: SLOS382D; PackageVersion: 4073225-2/I, 05/2011; PackageReference: PWP14-1830X2055TP; PackageDescription: 14-Pin Plastic Small Outline, Body 4.4 x 5 mm, Pitch 0.65 mm; Supplier 1: Digi-Key; Supplier Part Number 1: THS3125CPWPG4-ND; Supplier 2: Mouser; Supplier Part Number 2: 595-THS3125CPWPG4; Eco-Plan: Green (RoHS & no Sb/Br); Vio(Max)(mV): 10; Vs(Min)(V): 10; Mounting Technology: Surface Mount; Code_JEDEC: MO-153; ComponentLink1Description: Manufacturer URL; ComponentLink1URL: http://www.ti.com/; ComponentLink2Description: Datasheet; ComponentLink2URL: http://www.ti.com/general/docs/lit/getliterature.tsp?genericPartNumber=THS3125&fileType=pdf; ComponentLink3Description: Package Specification; ComponentLink3URL: http://www.ti.com/litv/pdf/mpds373
footprint TI-PWP14-1830X2055TP_N (SOP, 14-Leads, Body 5x4.4mm, Pitch 0.65mm, Thermal Pad 1.830x2.055mm, IPC Medium Density)
footprint TI-PWP14-1830X2055TP_L (SOP, 14-Leads, Body 5x4.4mm, Pitch 0.65mm, Thermal Pad 1.830x2.055mm, IPC High Density)
footprint TI-PWP14-1830X2055TP_M (SOP, 14-Leads, Body 5x4.4mm, Pitch 0.65mm, Thermal Pad 1.830x2.055mm, IPC Low Density)
part A pins: 1 OUT1 (out), 2 IN1- (in), 3 IN1+ (in)
part B pins: 11 IN2+ (in), 12 IN2- (in), 13 OUT2 (out)
part C pins: 4 VCC- (power), 5 NC, 6 REF (in), 7 NC, 8 NC, 9 SHUTDOWN (in), 10 NC, 14 VCC+ (power), 15 EP

## THS3125ID
designator U?
Dual, High Output Current, 120 MHz Amplifier with Shutdown, 10 to 30 V, -40 to 85 degC, 14-pin SOIC (D14), Green (RoHS & no Sb/Br); Manufacturer: Texas Instruments; PartNumber: THS3125ID; 2nd Harmonic(dBc): 62; 3rd Harmonic(dBc): 55; @ MHz: 10; Acl, min stable gain(V/V): 1; BW @ Acl(MHz): 160; Diff Gain(%): 0.01; Diff Phase(deg): 0.011; Iib(Max)(nA): 3000; Io(Typ)(mA): 440; Iq per channel(Max)(mA): 9; Number of Channels: 2; Settling Time (0.1%)(Typ)(ns): 64; Slew Rate(Typ)(V/us): 1550; Sub Family: High Output Current Amplifier (>=50mA), High Speed Amplifier (>=50MHz), High Supply Voltage Amplifier (>=30V); THD (Fc is 1 MHz)(Typ)(dB): -77; Vn at Flatband(Typ)(nV/rtHz): 2.2; Vs(Max)(V): 30; DatasheetVersion: SLOS382D; PackageVersion: 4040047-5/M, 06/2011; PackageReference: D14; PackageDescription: 14-Pin Plastic Small Outline, Body 8.65 x 3.9 mm, Pitch 1.27 mm; Supplier 1: Digi-Key; Supplier Part Number 1: 296-13339-5-ND; Supplier 2: Newark; Supplier Part Number 2: 76C6266; Supplier 3: Mouser; Supplier Part Number 3: 595-THS3125ID; Eco-Plan: Green (RoHS & no Sb/Br); Vio(Max)(mV): 10; Vs(Min)(V): 10; Mounting Technology: Surface Mount; Code_JEDEC: MS-012; ComponentLink1Description: Manufacturer URL; ComponentLink1URL: http://www.ti.com/; ComponentLink2Description: Datasheet; ComponentLink2URL: http://www.ti.com/general/docs/lit/getliterature.tsp?genericPartNumber=THS3125&fileType=pdf; ComponentLink3Description: Package Specification; ComponentLink3URL: http://www.ti.com/lit/ml/mpds177g/mpds177g.pdf
footprint TI-D14_N (SOIC, 14-Leads, Body 8.65x3.9mm, Pitch 1.27mm, IPC Medium Density)
footprint TI-D14_L (SOIC, 14-Leads, Body 8.65x3.9mm, Pitch 1.27mm, IPC High Density)
footprint TI-D14_M (SOIC, 14-Leads, Body 8.65x3.9mm, Pitch 1.27mm, IPC Low Density)
part A pins: 1 OUT1 (out), 2 IN1- (in), 3 IN1+ (in)
part B pins: 11 IN2+ (in), 12 IN2- (in), 13 OUT2 (out)
part C pins: 4 VCC- (power), 5 NC, 6 REF (in), 7 NC, 8 NC, 9 SHUTDOWN (in), 10 NC, 14 VCC+ (power)

## THS3125IDG4
designator U?
Dual, High Output Current, 120 MHz Amplifier with Shutdown, 10 to 30 V, -40 to 85 degC, 14-pin SOIC (D14), Green (RoHS & no Sb/Br); Manufacturer: Texas Instruments; PartNumber: THS3125IDG4; 2nd Harmonic(dBc): 62; 3rd Harmonic(dBc): 55; @ MHz: 10; Acl, min stable gain(V/V): 1; BW @ Acl(MHz): 160; Diff Gain(%): 0.01; Diff Phase(deg): 0.011; Iib(Max)(nA): 3000; Io(Typ)(mA): 440; Iq per channel(Max)(mA): 9; Number of Channels: 2; Settling Time (0.1%)(Typ)(ns): 64; Slew Rate(Typ)(V/us): 1550; Sub Family: High Output Current Amplifier (>=50mA), High Speed Amplifier (>=50MHz), High Supply Voltage Amplifier (>=30V); THD (Fc is 1 MHz)(Typ)(dB): -77; Vn at Flatband(Typ)(nV/rtHz): 2.2; Vs(Max)(V): 30; DatasheetVersion: SLOS382D; PackageVersion: 4040047-5/M, 06/2011; PackageReference: D14; PackageDescription: 14-Pin Plastic Small Outline, Body 8.65 x 3.9 mm, Pitch 1.27 mm; Supplier 1: Digi-Key; Supplier Part Number 1: THS3125IDG4-ND; Supplier 2: Mouser; Supplier Part Number 2: 595-THS3125IDG4; Eco-Plan: Green (RoHS & no Sb/Br); Vio(Max)(mV): 10; Vs(Min)(V): 10; Mounting Technology: Surface Mount; Code_JEDEC: MS-012; ComponentLink1Description: Manufacturer URL; ComponentLink1URL: http://www.ti.com/; ComponentLink2Description: Datasheet; ComponentLink2URL: http://www.ti.com/general/docs/lit/getliterature.tsp?genericPartNumber=THS3125&fileType=pdf; ComponentLink3Description: Package Specification; ComponentLink3URL: http://www.ti.com/lit/ml/mpds177g/mpds177g.pdf
footprint TI-D14_N (SOIC, 14-Leads, Body 8.65x3.9mm, Pitch 1.27mm, IPC Medium Density)
footprint TI-D14_L (SOIC, 14-Leads, Body 8.65x3.9mm, Pitch 1.27mm, IPC High Density)
footprint TI-D14_M (SOIC, 14-Leads, Body 8.65x3.9mm, Pitch 1.27mm, IPC Low Density)
part A pins: 1 OUT1 (out), 2 IN1- (in), 3 IN1+ (in)
part B pins: 11 IN2+ (in), 12 IN2- (in), 13 OUT2 (out)
part C pins: 4 VCC- (power), 5 NC, 6 REF (in), 7 NC, 8 NC, 9 SHUTDOWN (in), 10 NC, 14 VCC+ (power)

## THS3125IPWP
designator U?
Dual, High Output Current, 120 MHz Amplifier with Shutdown, 10 to 30 V, -40 to 85 degC, 14-pin SOP (PWP14), Green (RoHS & no Sb/Br); Manufacturer: Texas Instruments; PartNumber: THS3125IPWP; 2nd Harmonic(dBc): 62; 3rd Harmonic(dBc): 55; @ MHz: 10; Acl, min stable gain(V/V): 1; BW @ Acl(MHz): 160; Diff Gain(%): 0.01; Diff Phase(deg): 0.011; Iib(Max)(nA): 3000; Io(Typ)(mA): 440; Iq per channel(Max)(mA): 9; Number of Channels: 2; Settling Time (0.1%)(Typ)(ns): 64; Slew Rate(Typ)(V/us): 1550; Sub Family: High Output Current Amplifier (>=50mA), High Speed Amplifier (>=50MHz), High Supply Voltage Amplifier (>=30V); THD (Fc is 1 MHz)(Typ)(dB): -77; Vn at Flatband(Typ)(nV/rtHz): 2.2; Vs(Max)(V): 30; DatasheetVersion: SLOS382D; PackageVersion: 4073225-2/I, 05/2011; PackageReference: PWP14-1830X2055TP; PackageDescription: 14-Pin Plastic Small Outline, Body 4.4 x 5 mm, Pitch 0.65 mm; Supplier 1: Digi-Key; Supplier Part Number 1: 296-13340-5-ND; Supplier 2: Mouser; Supplier Part Number 2: 595-THS3125IPWP; Eco-Plan: Green (RoHS & no Sb/Br); Vio(Max)(mV): 10; Vs(Min)(V): 10; Mounting Technology: Surface Mount; Code_JEDEC: MO-153; ComponentLink1Description: Manufacturer URL; ComponentLink1URL: http://www.ti.com/; ComponentLink2Description: Datasheet; ComponentLink2URL: http://www.ti.com/general/docs/lit/getliterature.tsp?genericPartNumber=THS3125&fileType=pdf; ComponentLink3Description: Package Specification; ComponentLink3URL: http://www.ti.com/litv/pdf/mpds373
footprint TI-PWP14-1830X2055TP_N (SOP, 14-Leads, Body 5x4.4mm, Pitch 0.65mm, Thermal Pad 1.830x2.055mm, IPC Medium Density)
footprint TI-PWP14-1830X2055TP_L (SOP, 14-Leads, Body 5x4.4mm, Pitch 0.65mm, Thermal Pad 1.830x2.055mm, IPC High Density)
footprint TI-PWP14-1830X2055TP_M (SOP, 14-Leads, Body 5x4.4mm, Pitch 0.65mm, Thermal Pad 1.830x2.055mm, IPC Low Density)
part A pins: 1 OUT1 (out), 2 IN1- (in), 3 IN1+ (in)
part B pins: 11 IN2+ (in), 12 IN2- (in), 13 OUT2 (out)
part C pins: 4 VCC- (power), 5 NC, 6 REF (in), 7 NC, 8 NC, 9 SHUTDOWN (in), 10 NC, 14 VCC+ (power), 15 EP

## THS3125IPWPG4
designator U?
Dual, High Output Current, 120 MHz Amplifier with Shutdown, 10 to 30 V, -40 to 85 degC, 14-pin SOP (PWP14), Green (RoHS & no Sb/Br); Manufacturer: Texas Instruments; PartNumber: THS3125IPWPG4; 2nd Harmonic(dBc): 62; 3rd Harmonic(dBc): 55; @ MHz: 10; Acl, min stable gain(V/V): 1; BW @ Acl(MHz): 160; Diff Gain(%): 0.01; Diff Phase(deg): 0.011; Iib(Max)(nA): 3000; Io(Typ)(mA): 440; Iq per channel(Max)(mA): 9; Number of Channels: 2; Settling Time (0.1%)(Typ)(ns): 64; Slew Rate(Typ)(V/us): 1550; Sub Family: High Output Current Amplifier (>=50mA), High Speed Amplifier (>=50MHz), High Supply Voltage Amplifier (>=30V); THD (Fc is 1 MHz)(Typ)(dB): -77; Vn at Flatband(Typ)(nV/rtHz): 2.2; Vs(Max)(V): 30; DatasheetVersion: SLOS382D; PackageVersion: 4073225-2/I, 05/2011; PackageReference: PWP14-1830X2055TP; PackageDescription: 14-Pin Plastic Small Outline, Body 4.4 x 5 mm, Pitch 0.65 mm; Supplier 1: Digi-Key; Supplier Part Number 1: THS3125IPWPG4-ND; Supplier 2: Mouser; Supplier Part Number 2: 595-THS3125IPWPG4; Eco-Plan: Green (RoHS & no Sb/Br); Vio(Max)(mV): 10; Vs(Min)(V): 10; Mounting Technology: Surface Mount; Code_JEDEC: MO-153; ComponentLink1Description: Manufacturer URL; ComponentLink1URL: http://www.ti.com/; ComponentLink2Description: Datasheet; ComponentLink2URL: http://www.ti.com/general/docs/lit/getliterature.tsp?genericPartNumber=THS3125&fileType=pdf; ComponentLink3Description: Package Specification; ComponentLink3URL: http://www.ti.com/litv/pdf/mpds373
footprint TI-PWP14-1830X2055TP_N (SOP, 14-Leads, Body 5x4.4mm, Pitch 0.65mm, Thermal Pad 1.830x2.055mm, IPC Medium Density)
footprint TI-PWP14-1830X2055TP_L (SOP, 14-Leads, Body 5x4.4mm, Pitch 0.65mm, Thermal Pad 1.830x2.055mm, IPC High Density)
footprint TI-PWP14-1830X2055TP_M (SOP, 14-Leads, Body 5x4.4mm, Pitch 0.65mm, Thermal Pad 1.830x2.055mm, IPC Low Density)
part A pins: 1 OUT1 (out), 2 IN1- (in), 3 IN1+ (in)
part B pins: 11 IN2+ (in), 12 IN2- (in), 13 OUT2 (out)
part C pins: 4 VCC- (power), 5 NC, 6 REF (in), 7 NC, 8 NC, 9 SHUTDOWN (in), 10 NC, 14 VCC+ (power), 15 EP

## THS3125IPWPR
designator U?
Dual, High Output Current, 120 MHz Amplifier with Shutdown, 10 to 30 V, -40 to 85 degC, 14-pin SOP (PWP14), Green (RoHS & no Sb/Br); Manufacturer: Texas Instruments; PartNumber: THS3125IPWPR; 2nd Harmonic(dBc): 62; 3rd Harmonic(dBc): 55; @ MHz: 10; Acl, min stable gain(V/V): 1; BW @ Acl(MHz): 160; Diff Gain(%): 0.01; Diff Phase(deg): 0.011; Iib(Max)(nA): 3000; Io(Typ)(mA): 440; Iq per channel(Max)(mA): 9; Number of Channels: 2; Settling Time (0.1%)(Typ)(ns): 64; Slew Rate(Typ)(V/us): 1550; Sub Family: High Output Current Amplifier (>=50mA), High Speed Amplifier (>=50MHz), High Supply Voltage Amplifier (>=30V); THD (Fc is 1 MHz)(Typ)(dB): -77; Vn at Flatband(Typ)(nV/rtHz): 2.2; Vs(Max)(V): 30; DatasheetVersion: SLOS382D; PackageVersion: 4073225-2/I, 05/2011; PackageReference: PWP14-1830X2055TP; PackageDescription: 14-Pin Plastic Small Outline, Body 4.4 x 5 mm, Pitch 0.65 mm; Supplier 1: Digi-Key; Supplier Part Number 1: THS3125IPWPR-ND; Supplier 2: Mouser; Supplier Part Number 2: 595-THS3125IPWPR; Eco-Plan: Green (RoHS & no Sb/Br); Vio(Max)(mV): 10; Vs(Min)(V): 10; Mounting Technology: Surface Mount; Code_JEDEC: MO-153; ComponentLink1Description: Manufacturer URL; ComponentLink1URL: http://www.ti.com/; ComponentLink2Description: Datasheet; ComponentLink2URL: http://www.ti.com/general/docs/lit/getliterature.tsp?genericPartNumber=THS3125&fileType=pdf; ComponentLink3Description: Package Specification; ComponentLink3URL: http://www.ti.com/litv/pdf/mpds373
footprint TI-PWP14-1830X2055TP_N (SOP, 14-Leads, Body 5x4.4mm, Pitch 0.65mm, Thermal Pad 1.830x2.055mm, IPC Medium Density)
footprint TI-PWP14-1830X2055TP_L (SOP, 14-Leads, Body 5x4.4mm, Pitch 0.65mm, Thermal Pad 1.830x2.055mm, IPC High Density)
footprint TI-PWP14-1830X2055TP_M (SOP, 14-Leads, Body 5x4.4mm, Pitch 0.65mm, Thermal Pad 1.830x2.055mm, IPC Low Density)
part A pins: 1 OUT1 (out), 2 IN1- (in), 3 IN1+ (in)
part B pins: 11 IN2+ (in), 12 IN2- (in), 13 OUT2 (out)
part C pins: 4 VCC- (power), 5 NC, 6 REF (in), 7 NC, 8 NC, 9 SHUTDOWN (in), 10 NC, 14 VCC+ (power), 15 EP